# Altium footprint library uz_d_encoder_lib.PcbLib: 3 footprints
Each footprint in its own frame and in the unit in brackets; x right, y up, seen from the top. Pads: shape width x height; smd on the part's side, far side on the other; paste and mask are expansions set on the pad; w line width, h text height; cw(c..) or ccw(c..) is an arc to the next point about the centre after c.
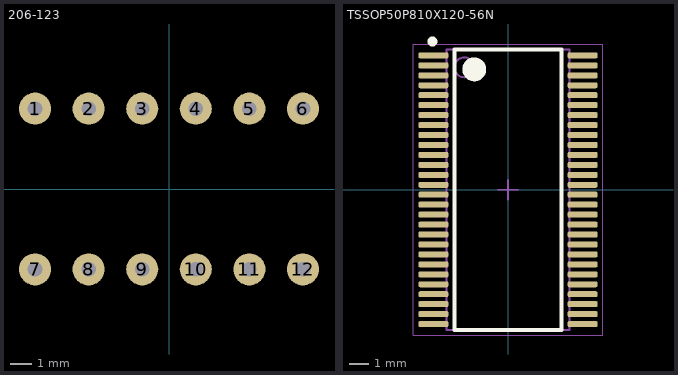
[diagram p0: the footprints below, top view; thin cyan lines are the x and y axes]

## 206-123 [mil]
pads (12):
  round 60 hole 27.56: 1(-250,150) 2(-150,150) 3(-50,150) 4(50,150) 5(150,150) 6(250,150) 7(-250,-150) 8(-150,-150) 9(-50,-150) 10(50,-150) 11(150,-150) 12(250,-150)
3D body "206-6.STEP": height 334.18, standoff -150.78, extent -342.05,-188.41 343.95,191.59

## revisioninfo [mm]
Top Overlay:
  text ".ProjectName / .ProjectRevision .AuthorParam .Date" at -4.953,-0.508 h2.29

## TSSOP50P810X120-56N [mm] "TSSOP, 56-Leads, Body 14,00x6,10mm, Pitch 0,50mm, IPC Medium Density"
height 1.2
pads (56):
  rrect50% 1.5x0.3 smd: 1(-3.75,6.75) 2(-3.75,6.25) 3(-3.75,5.75) 4(-3.75,5.25) 5(-3.75,4.75) 6(-3.75,4.25) 7(-3.75,3.75) 8(-3.75,3.25) 9(-3.75,2.75) 10(-3.75,2.25) 11(-3.75,1.75) 12(-3.75,1.25) 13(-3.75,0.75) 14(-3.75,0.25) 15(-3.75,-0.25) 16(-3.75,-0.75) 17(-3.75,-1.25) 18(-3.75,-1.75) 19(-3.75,-2.25) 20(-3.75,-2.75) 21(-3.75,-3.25) 22(-3.75,-3.75) 23(-3.75,-4.25) 24(-3.75,-4.75) 25(-3.75,-5.25) 26(-3.75,-5.75) 27(-3.75,-6.25) 28(-3.75,-6.75) 29(3.75,-6.75) 30(3.75,-6.25) 31(3.75,-5.75) 32(3.75,-5.25) 33(3.75,-4.75) 34(3.75,-4.25) 35(3.75,-3.75) 36(3.75,-3.25) 37(3.75,-2.75) 38(3.75,-2.25) 39(3.75,-1.75) 40(3.75,-1.25) 41(3.75,-0.75) 42(3.75,-0.25) 43(3.75,0.25) 44(3.75,0.75) 45(3.75,1.25) 46(3.75,1.75) 47(3.75,2.25) 48(3.75,2.75) 49(3.75,3.25) 50(3.75,3.75) 51(3.75,4.25) 52(3.75,4.75) 53(3.75,5.25) 54(3.75,5.75) 55(3.75,6.25) 56(3.75,6.75)
Top Overlay:
  circle w0.6: c-1.7,6.05 r0.3
  circle w0.25: c-3.8,7.45 r0.125
  lines w0.2: -2.7,-7.05 2.7,-7.05 2.7,7.05 -2.7,7.05 -2.7,-7.05
Mechanical 13:
  circle w0.1: c-2.2,6.15 r0.5
  lines w0.1: -3.1,-7.05 3.1,-7.05 3.1,7.05 -3.1,7.05 -3.1,-7.05
Mechanical 15:
  lines w0.05: -4.75,-7.3 4.75,-7.3 4.75,7.3 -4.75,7.3 -4.75,-7.3
  lines w0.1: -0.5,0 0.5,0 ; 0,-0.5 0,0.5
3D body "TSSOP50P810X120-56N.step": height 1.2, standoff 0, extent -4.05,-7.05 4.05,7.05